# EAGLE library part QIACHIP_QUAD_WIRELESS_SWITCH (library gateCustomPartLibrary)
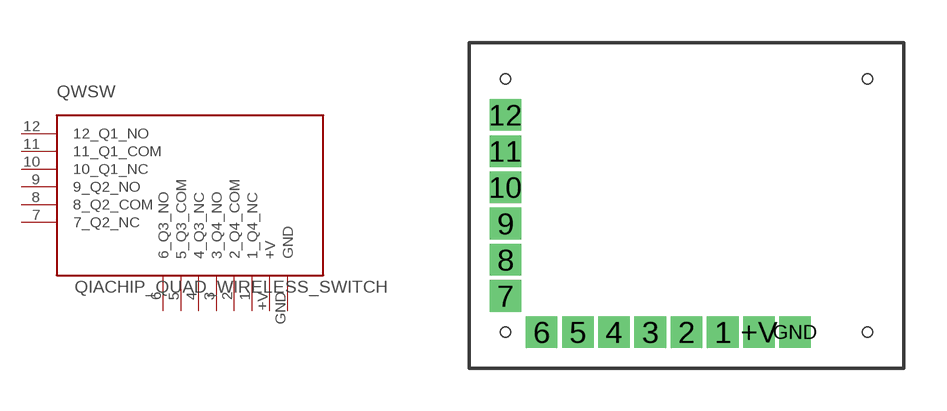
[diagram p0: symbol with the pads of QIACHIP_QUAD_WIRELESS_SWITCH; footprint QIACHIP_QUAD_WIRELESS_SWITCH]

Designator prefix QWSW

## QIACHIP_QUAD_WIRELESS_SWITCH  [QIACHIP_QUAD_WIRELESS_SWITCH]
1  1_Q4_NC
2  2_Q4_COM
3  3_Q4_NO
4  4_Q3_NC
5  5_Q3_COM
6  6_Q3_NO
7  7_Q2_NC
8  8_Q2_COM
9  9_Q2_NO
10  10_Q1_NC
11  11_Q1_COM
12  12_Q1_NO
+V  +V
GND  GND

## Footprint QIACHIP_QUAD_WIRELESS_SWITCH (pad centres in mm)
drill 0.6 square: 1 8.89,-10.16; 2 7.62,-10.16; 3 6.35,-10.16; 4 5.08,-10.16; 5 3.81,-10.16; 6 2.54,-10.16; 7 1.27,-8.89; 8 1.27,-7.62; 9 1.27,-6.35; 10 1.27,-5.08; 11 1.27,-3.81; 12 1.27,-2.54; +V 10.16,-10.16; GND 11.43,-10.16
hole 0.35 at 1.27,-1.27
hole 0.35 at 1.27,-10.16
hole 0.35 at 13.97,-10.16
hole 0.35 at 13.97,-1.27